# Altium schematic symbol library Detectors.SchLib: 2 symbols
Pins are listed as number, name and electrical type; pins without a type are passive.

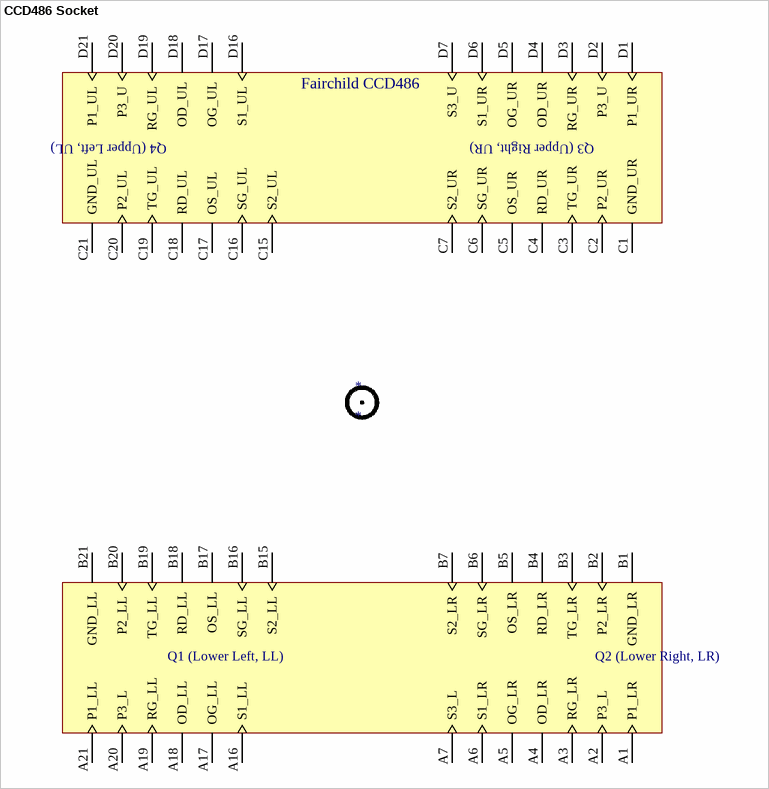
[diagram p0: symbol CCD486 Socket]

## CCD486 Socket
designator *
footprint FI CCD486-BI (Fairchild CCD486 BI Socket)
pins: A1 P1_LR, A2 P3_L, A3 RG_LR, A4 OD_LR, A5 OG_LR, A6 S1_LR, A7 S3_L, A16 S1_LL, A17 OG_LL, A18 OD_LL, A19 RG_LL, A20 P3_L, A21 P1_LL, B1 GND_LR, B2 P2_LR, B3 TG_LR, B4 RD_LR, B5 OS_LR, B6 SG_LR, B7 S2_LR, B15 S2_LL, B16 SG_LL, B17 OS_LL, B18 RD_LL, B19 TG_LL, B20 P2_LL, B21 GND_LL, C1 GND_UR, C2 P2_UR, C3 TG_UR, C4 RD_UR, C5 OS_UR, C6 SG_UR, C7 S2_UR, C15 S2_UL, C16 SG_UL, C17 OS_UL, C18 RD_UL, C19 TG_UL, C20 P2_UL, C21 GND_UL, D1 P1_UR, D2 P3_U, D3 RG_UR, D4 OD_UR, D5 OG_UR, D6 S1_UR, D7 S3_U, D16 S1_UL, D17 OG_UL, D18 OD_UL, D19 RG_UL, D20 P3_U, D21 P1_UL
text: Fairchild CCD486; Q4 (Upper Left, UL); Q3 (Upper Right, UR); Q1 (Lower Left, LL); Q2 (Lower Right, LR)

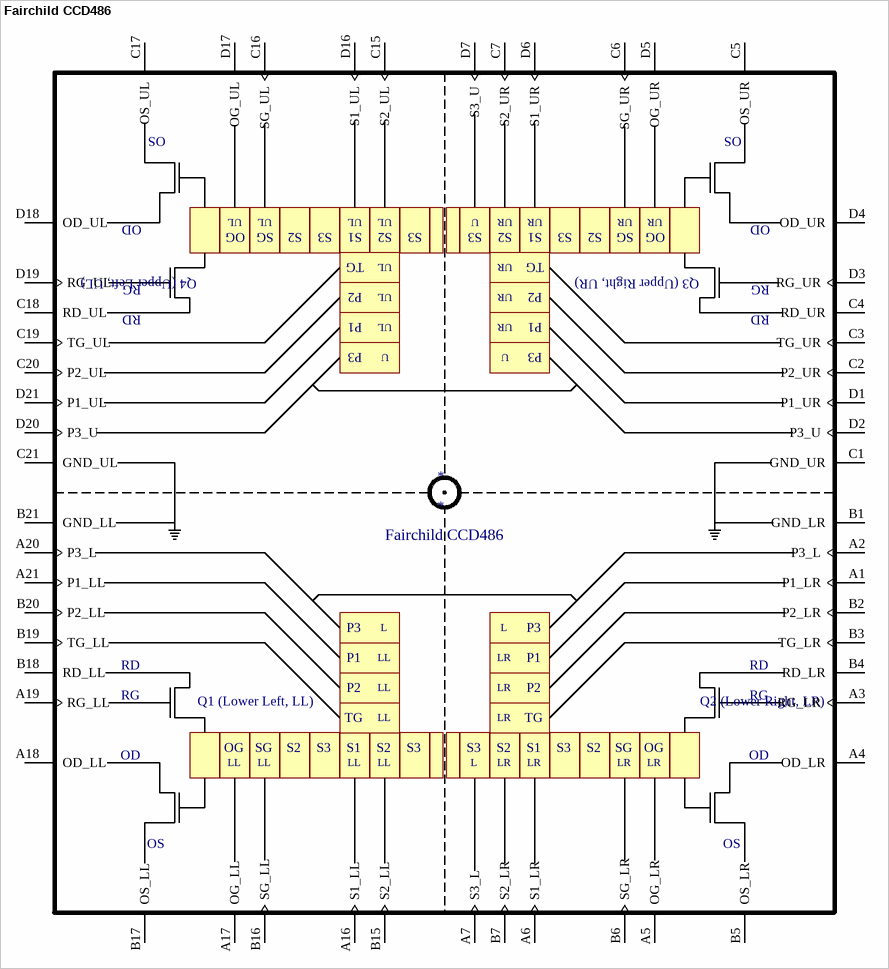
[diagram p1: symbol Fairchild CCD486]

## Fairchild CCD486
designator *
pins: A1 P1_LR, A2 P3_L, A3 RG_LR, A4 OD_LR, A5 OG_LR, A6 S1_LR, A7 S3_L, A16 S1_LL, A17 OG_LL, A18 OD_LL, A19 RG_LL, A20 P3_L, A21 P1_LL, B1 GND_LR, B2 P2_LR, B3 TG_LR, B4 RD_LR, B5 OS_LR, B6 SG_LR, B7 S2_LR, B15 S2_LL, B16 SG_LL, B17 OS_LL, B18 RD_LL, B19 TG_LL, B20 P2_LL, B21 GND_LL, C1 GND_UR, C2 P2_UR, C3 TG_UR, C4 RD_UR, C5 OS_UR, C6 SG_UR, C7 S2_UR, C15 S2_UL, C16 SG_UL, C17 OS_UL, C18 RD_UL, C19 TG_UL, C20 P2_UL, C21 GND_UL, D1 P1_UR, D2 P3_U, D3 RG_UR, D4 OD_UR, D5 OG_UR, D6 S1_UR, D7 S3_U, D16 S1_UL, D17 OG_UL, D18 OD_UL, D19 RG_UL, D20 P3_U, D21 P1_UL
text: OS; UL; U; UR; OD; OG; SG; S2; S3; S1; TG; Q4 (Upper Left, UL); Q3 (Upper Right, UR); RG; P2; RD; P1; P3; L; LL; LR; Q1 (Lower Left, LL); Q2 (Lower Right, LR)